# EAGLE library part PAL16L8 (library A-14732-40009)
PAL16TIB8 PLD in DIP20 package
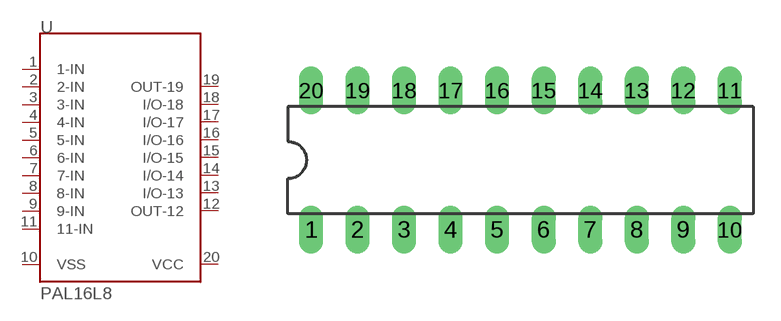
[diagram p2: symbol with the pads of DIP20N; footprint DIP20N]

Designator prefix U

## PAL16L8  [DIP20N]
1  1-IN  pas
2  2-IN  pas
3  3-IN  pas
4  4-IN  pas
5  5-IN  pas
6  6-IN  pas
7  7-IN  pas
8  8-IN  pas
9  9-IN  pas
10  VSS  pas
11  11-IN  pas
12  OUT-12  pas
13  I/O-13  pas
14  I/O-14  pas
15  I/O-15  pas
16  I/O-16  pas
17  I/O-17  pas
18  I/O-18  pas
19  OUT-19  pas
20  VCC  pas

## Footprint DIP20N (pad centres in mm)
Dual In Line Package 20 pin narrow
drill 0.813 long: 1 -11.43,-3.81; 2 -8.89,-3.81; 3 -6.35,-3.81; 4 -3.81,-3.81; 5 -1.27,-3.81; 6 1.27,-3.81; 7 3.81,-3.81; 8 6.35,-3.81; 9 8.89,-3.81; 10 11.43,-3.81; 11 11.43,3.81; 12 8.89,3.81; 13 6.35,3.81; 14 3.81,3.81; 15 1.27,3.81; 16 -1.27,3.81; 17 -3.81,3.81; 18 -6.35,3.81; 19 -8.89,3.81; 20 -11.43,3.81